# Altium footprint library CN_CINCH_RC01X.PcbLib: 1 footprints
Each footprint in its own frame and in the unit in brackets; x right, y up, seen from the top. Pads: shape width x height; smd on the part's side, far side on the other; paste and mask are expansions set on the pad; w line width, h text height; cw(c..) or ccw(c..) is an arc to the next point about the centre after c.
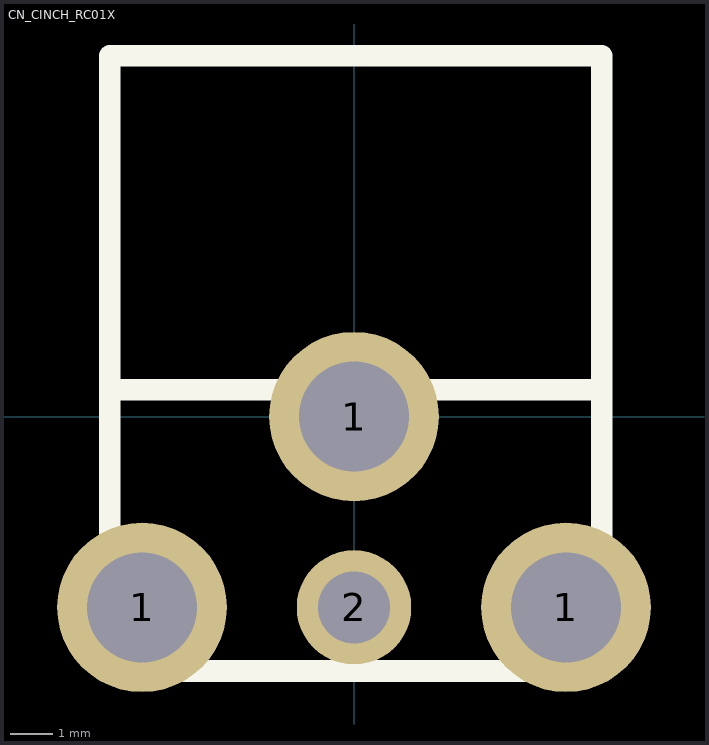
[diagram p0: the footprint, top view; thin cyan lines are the x and y axes]

## CN_CINCH_RC01X [mm]
pads (4):
  round 4 hole 2.6: 1(-5,-4.5) 1(0,0) 1(5,-4.5)
  round 2.7 hole 1.7: 2(0,-4.5)
Top Overlay:
  lines w0.508: -5.758,0.635 5.842,0.635 ; -5.758,-6 -5.758,8.509 5.842,8.509 5.842,-6 -5.758,-6
3D body: height 12.25, standoff 0.75, extent -5.785,-4.867 5.715,37.633
3D body: height 12.02, standoff -4.18, extent -5.758,-5.98 5.842,8.52